# Altium schematic symbol library SCH - MICROCONTROLLER - LTC6992HS6-4#WTRMPBF.Schlib: 1 symbol
Pins are listed as number, name and electrical type; pins without a type are passive.

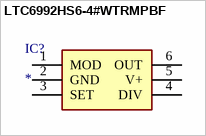
[diagram p0: symbol LTC6992HS6-4#WTRMPBF]

## LTC6992HS6-4#WTRMPBF
designator IC?
Integrated Circuit
pins: 1 MOD, 2 GND, 3 SET, 4 DIV, 5 V+, 6 OUT